# EAGLE library part 61303211021 (library Wurth_Elektronik2)
WR-PHD 2.54mm Angled Pin Header, 32 Pins =>Con_BTB_PHD_2.54_1_THT_61303211021 <http://katalog.we-online.de/media/images/eican/Con_BTB_PHD_2.54_1_THT_61303211021_pf2.jpg> Details see: http://katalog.we-online.de/en/em/613_0xx_110_21 Created 2014-05-29, Karrer Zheng 2014 (C) Würth Elektronik
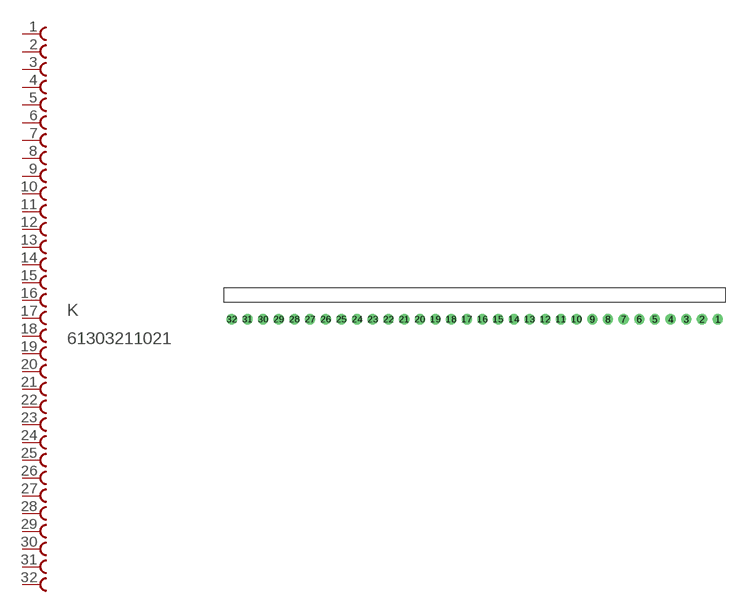
[diagram p49: symbol with the pads of 61303211021; footprint 61303211021]

Designator prefix K

## 61303211021  [61303211021]
1  1  pas
2  2  pas
3  3  pas
4  4  pas
5  5  pas
6  6  pas
7  7  pas
8  8  pas
9  9  pas
10  10  pas
11  11  pas
12  12  pas
13  13  pas
14  14  pas
15  15  pas
16  16  pas
17  17  pas
18  18  pas
19  19  pas
20  20  pas
21  21  pas
22  22  pas
23  23  pas
24  24  pas
25  25  pas
26  26  pas
27  27  pas
28  28  pas
29  29  pas
30  30  pas
31  31  pas
32  32  pas

## Footprint 61303211021 (pad centres in mm)
WR-PHD 2.54mm Angled Pin Header, 32 Pins
drill 1.1: 1 39.37,0; 2 36.83,0; 3 34.29,0; 4 31.75,0; 5 29.21,0; 6 26.67,0; 7 24.13,0; 8 21.59,0; 9 19.05,0; 10 16.51,0; 11 13.97,0; 12 11.43,0; 13 8.89,0; 14 6.35,0; 15 3.81,0; 16 1.27,0; 17 -1.27,0; 18 -3.81,0; 19 -6.35,0; 20 -8.89,0; 21 -11.43,0; 22 -13.97,0; 23 -16.51,0; 24 -19.05,0; 25 -21.59,0; 26 -24.13,0; 27 -26.67,0; 28 -29.21,0; 29 -31.75,0; 30 -34.29,0; 31 -36.83,0; 32 -39.37,0